# Altium footprint library MisPies.PcbLib: 27 footprints (part 2 of 2)
Each footprint in its own frame and in the unit in brackets; x right, y up, seen from the top. Pads: shape width x height; smd on the part's side, far side on the other; paste and mask are expansions set on the pad; w line width, h text height; cw(c..) or ccw(c..) is an arc to the next point about the centre after c.
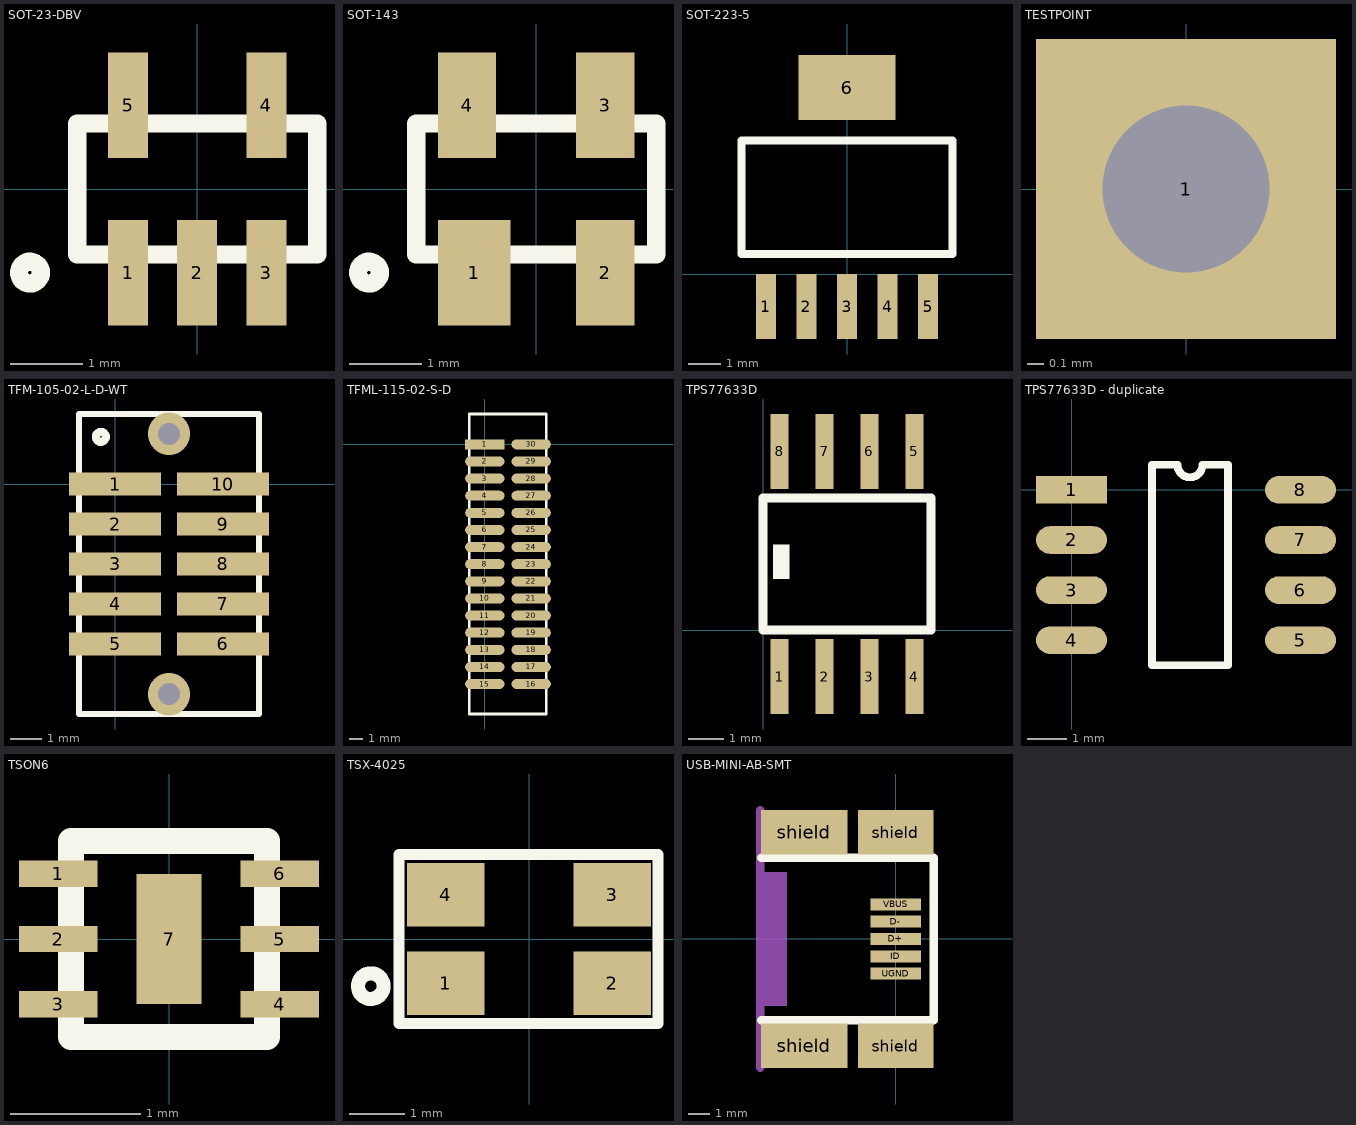
[diagram p1: the footprints below, top view; thin cyan lines are the x and y axes]

## SOT-23-DBV [mm]
height 1
pads (5):
  rect 0.55x1.45 smd: 1(-0.95,-1.15) 2(0,-1.15) 3(0.95,-1.15) 4(0.95,1.15) 5(-0.95,1.15)
Top Overlay:
  circle w0.25: c-2.3,-1.15 r0.15
  lines w0.25: -1.65,-0.9 -1.65,0.9 1.65,0.9 1.65,-0.9 -1.65,-0.9

## SOT-143 [mm] "SOT143"
height 1
pads (4):
  rect 1x1.45 smd: 1(-0.85,-1.15)
  rect 0.8x1.45 smd: 2(0.95,-1.15) 3(0.95,1.15) 4(-0.95,1.15)
Top Overlay:
  circle w0.25: c-2.3,-1.15 r0.15
  lines w0.25: -1.65,-0.9 1.65,-0.9 1.65,0.9 -1.65,0.9 -1.65,-0.9

## SOT-223-5 [mil] "Encapsulado DCQ de TI"
height 70.87
pads (6):
  rect 25x80 smd: 1(-100,-40) 2(-50,-40) 3(0,-40) 4(50,-40) 5(100,-40)
  rect 120x80 smd: 6(0,230)
Top Overlay:
  lines w10: -130,25 -130,165 130,165 130,25 -130,25

## TESTPOINT [mm] "Punto de test"
pads (1):
  rect 1.8x1.8 hole 1: 1(0,0)

## TFM-105-02-L-D-WT [mm]
pads (10):
  rect 2.92x0.74 smd: 1(0,0) 2(0,-1.27) 3(0,-2.54) 4(0,-3.81) 5(0,-5.08) 6(3.43,-5.08) 7(3.43,-3.81) 8(3.43,-2.54) 9(3.43,-1.27) 10(3.43,0)
via 1.715,-6.67 diameter 1.35 hole 0.711
via 1.715,1.59 diameter 1.35 hole 0.711
Top Overlay:
  circle w0.254: c-0.45,1.5 r0.158
  lines w0.2: -1.145,-7.305 4.575,-7.305 4.575,2.225 -1.145,2.225 -1.145,-7.305

## TFML-115-02-S-D [mm]
pads (30):
  rect 2.92x0.74 smd: 1(0,0)
  oval 2.92x0.74 smd: 2(0,-1.27) 3(0,-2.54) 4(0,-3.81) 5(0,-5.08) 6(0,-6.35) 7(0,-7.62) 8(0,-8.89) 9(0,-10.16) 10(0,-11.43) 11(0,-12.7) 12(0,-13.97) 13(0,-15.24) 14(0,-16.51) 15(0,-17.78) 16(3.43,-17.78) 17(3.43,-16.51) 18(3.43,-15.24) 19(3.43,-13.97) 20(3.43,-12.7) 21(3.43,-11.43) 22(3.43,-10.16) 23(3.43,-8.89) 24(3.43,-7.62) 25(3.43,-6.35) 26(3.43,-5.08) 27(3.43,-3.81) 28(3.43,-2.54) 29(3.43,-1.27) 30(3.43,0)
Top Overlay:
  lines w0.2: -1.16,-20 4.56,-20 4.56,2.25 -1.16,2.25 -1.16,-20

## TPS77633D [mm]
pads (8):
  rect 0.51x2.116 smd: 1(0.467,-1.312) 2(1.737,-1.312) 3(3.007,-1.312) 4(4.277,-1.312) 5(4.277,5.058) 6(3.007,5.058) 7(1.737,5.058) 8(0.467,5.058)
Top Overlay:
  rectangle: 0.28,1.45 0.75,2.43
  lines w0.254: 0,0 4.746,0 4.746,3.746 0,3.746 0,0

## TPS77633D - duplicate [mm]
pads (8):
  rect 1.8x0.7 smd: 1(0,0)
  oval 1.8x0.7 smd: 2(0,-1.27) 3(0,-2.54) 4(0,-3.81) 5(5.8,-3.81) 6(5.8,-2.54) 7(5.8,-1.27) 8(5.8,0)
Top Overlay:
  lines w0.2: 2.035,-4.445 3.965,-4.445 3.965,0.635 3.317,0.635 cw(c3,0.635) 2.682,0.635 2.035,0.635 2.035,-4.445
3D body: height 1.45, standoff 0, extent 0.04,-4.343 5.818,0.559

## TSON6 [mm] "6-PIN PLASTIC TSON"
height 0.4
pads (7):
  rect 0.6x0.2 smd: 1(-0.85,0.5) 2(-0.85,0) 3(-0.85,-0.5) 4(0.85,-0.5) 5(0.85,0) 6(0.85,0.5)
  rect 0.5x1 smd: 7(0,0)
Top Overlay:
  lines w0.2: -0.75,-0.75 0.75,-0.75 0.75,0.75 -0.75,0.75 -0.75,-0.75
Top Solder:
  rectangle: -0.75,-0.75 0.75,0.75

## TSX-4025 [mm] "Xtal 16Mhz"
pads (4):
  rect 1.4x1.15 smd: 1(-1.5,-0.8) 2(1.5,-0.8) 3(1.5,0.8) 4(-1.5,0.8)
Top Overlay:
  circle w0.254: c-2.855,-0.85 r0.23
  lines w0.2: -2.35,-1.525 -2.35,1.525 2.325,1.525 2.325,-1.525 -2.35,-1.525

## USB-MINI-AB-SMT [mm] "Conector MINI-USB-AB-SMT"
height 3.96
pads (9):
  rect 2.35x0.55 smd: D+(0,0) D-(0,0.8) ID(0,-0.8) UGND(0,-1.6) VBUS(0,1.6)
  rect 4x2.05 smd: shield(-4.225,-4.925) shield(-4.225,4.925)
  rect 3.5x2.05 smd: shield(0,-4.925) shield(0,4.925)
Top Overlay:
  lines w0.4: -6.2,-3.75 1.75,-3.75 1.75,3.75 -6.2,3.75
Mechanical 2:
  rectangle: -6.225,-3.1 -5.025,3.1
  lines w0.4: -6.25,-5.95 -6.25,5.95